# Altium schematic symbol library Schlib1.SchLib: 4 symbols
Pins are listed as number, name and electrical type; pins without a type are passive.

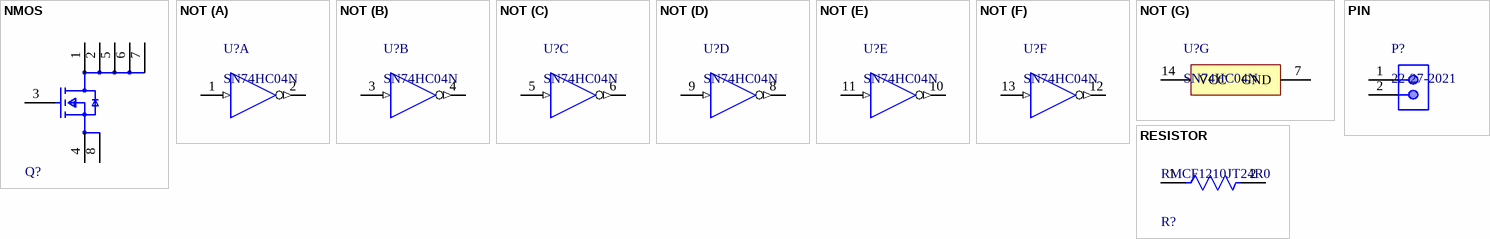
[diagram p0: symbols NMOS to RESISTOR]

## NMOS
designator Q?, comment IRL60HS118  (value not drawn)
MOSFET N-CH 60V 18.5A 6PQFN; Input Capacitance: 660pF; Max Power Dissipation: 11.5W; Rds On Max: 17mR; Max Operating Temperature: 175°C; Min Operating Temperature: -55°C; RoHS Compliant: Yes; Drain to Source Voltage (Vdss): 60V; Halogen Free: Halogen Free; Continuous Drain Current (ID): 18.5A; Packaging: Cut Tape; Lead Free: Lead Free; Max Dual Supply Voltage: 60V; Mount: Surface Mount
footprint NMOS
pins: 1 D, 2 D, 3 G, 4 S, 5 D, 6 D, 7 D, 8 S

## NOT
designator U?, comment SN74HC04N
Hex Inverters, N0014A, TUBE; Manufacturer: Texas Instruments; VCC(Min)(V): 2; Bits(#): 6; Technology Family: HC; tpd @ Nom Voltage(Max)(ns): 20; Output Drive (IOL/IOH)(Max)(mA): -4/4; Rating: Catalog; Voltage(Nom)(V): 5; Schmitt Trigger: No; ICC @ Nom Voltage(Max)(mA): 0.02; Input Type: CMOS; Code_JEDEC: MS-001; PackageReference: N0014A; DatasheetVersion: SCLS078F; Output Type: CMOS; VCC(Max)(V): 6; Operating Temperature Range(C): -40 to 85; Generic Part Number: SN74HC04; F @ Nom Voltage(Max)(Mhz): 20
footprint NOT (DIP, 14-Leads, Body 19.7x6.6mm, Pitch 2.54mm)
part A pins: 1 1A (in) "Input 1A", 2 ~{1Y} (out) "Output 1Y"
part B pins: 3 2A (in) "Input 2A", 4 ~{2Y} (out) "Output 2Y"
part C pins: 5 3A (in) "Input 3A", 6 ~{3Y} (out) "Output 3Y"
part D pins: 8 ~{4Y} (out) "Output 4Y", 9 4A (in) "Input 4A"
part E pins: 10 ~{5Y} (out) "Output 5Y", 11 5A (in) "Input 5A"
part F pins: 12 ~{6Y} (out) "Output 6Y", 13 6A (in) "Input 6A"
part G pins: 7 GND (power) "Ground Pin", 14 VCC (power) "Power Pin"

## PIN
designator P?, comment 22-27-2021
Male Header, Pitch 2.54 mm, 1 x 2 Position, Height 11.7 mm, Tail Length 3.56 mm, 0 to 75 degC, RoHS, Bulk; Manufacturer: Molex; PartNumber: 0022272021; Current rating: 4A; Package Version: Rev. BC, 02/2012; Voltage rating: 250V; No. of Positions: 2; Pitch: 2.54mm; No. of Rows: 1; Orientation: Vertical; Operating temperature: 0°Cto+75°C; Manufacturer URL: http://www.molex.com/; Mounting Technology: ThroughHole; Housing material: Nylon(UL94V-0); Package Description: 2-Leads Header, Body 5.08 x 5.8 mm, Pitch 2.54 mm; Voltage - Max: 250V; Datasheet URL: http://www.molex.com/pdm_docs/sd/022272021_sd.pdf; Package Reference: 22-27-2021; Contact material: Tinplatedbrass; Current - Max: 4A; Datasheet Version: Rev. F, 06/2009
footprint PIN (Header, 2-Leads, Body 5.8x5.08mm)
pins: 1, 2

## RESISTOR
designator R?, comment RMCF1210JT24R0
24Ω ±5% 0.5W 1210 Thick Film Chip Resistor AEC-Q200 compliant; Resistance: 24R; Temperature Coefficient: 200ppm/°C; Max Power Dissipation: 500mW; Contact Plating: Tin; Length: 0.126inch; Series: RMCF; Radiation Hardening: No; Width: 0.098inch; Height: 0.028inch; Packaging: Tape and Reel; RoHS Compliant: Yes; Tolerance: 5%; Case/Package: 1210; Resistor Type: Thick Film; Number of Terminations: 2; Min Operating Temperature: -55°C; Features: Automotive AEC-Q200; Mount: Surface Mount; Max Operating Temperature: 155°C
footprint FP-RMCF1210-IPC_B
pins: 1, 2